# Altium footprint library konektor_2.pcblib: 1 footprints
Each footprint in its own frame and in the unit in brackets; x right, y up, seen from the top. Pads: shape width x height; smd on the part's side, far side on the other; paste and mask are expansions set on the pad; w line width, h text height; cw(c..) or ccw(c..) is an arc to the next point about the centre after c.
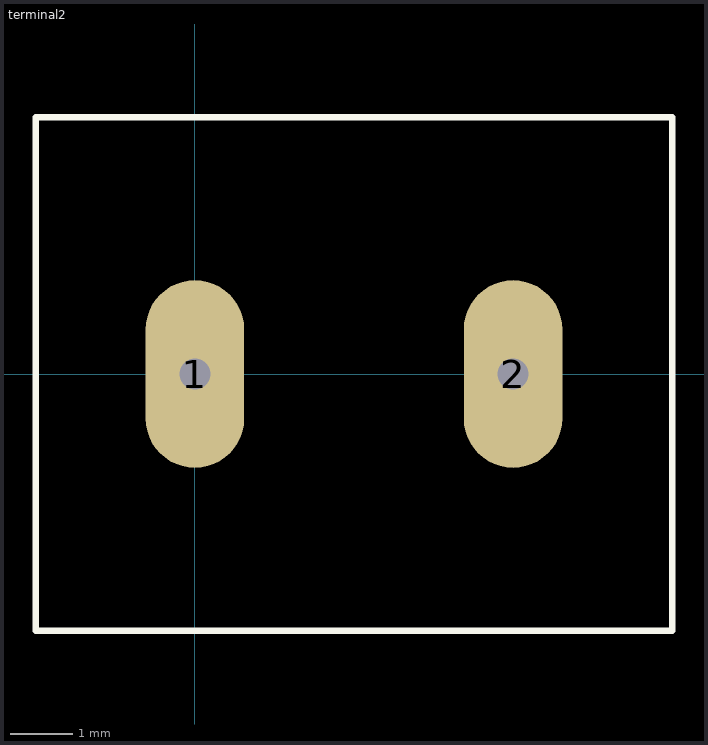
[diagram p0: the footprint, top view; thin cyan lines are the x and y axes]

## terminal2 [mil]
pads (2):
  oval 62x118 hole 19.68: 1(0,0) 2(200,0)
Top Overlay:
  lines w3.94: -100,-161.42 300,-161.42 300,161.42 -100,161.42 -100,-161.42